# Altium schematic symbol library STUSB4700QTR.SchLib: 1 symbol
Pins are listed as number, name and electrical type; pins without a type are passive.

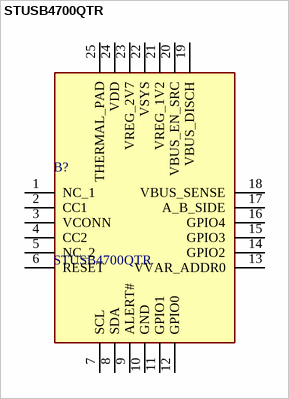
[diagram p0: symbol STUSB4700QTR]

## STUSB4700QTR
designator B?
Stand-alone autonomous USB PD controller with short-to-VBUS protections; Manufacturer_Name: STMicroelectronics; Geometry.Height: 1mm; Mouser Part Number: 511-STUSB4700QTR; Mouser Price/Stock: https://www.mouser.co.uk/ProductDetail/STMicroelectronics/STUSB4700QTR?qs=z7LT7PaeiGHOUo05EuM2ew%3D%3D; Manufacturer_Part_Number: STUSB4700QTR; Datasheet Link: https://www.st.com/resource/en/datasheet/stusb4700.pdf
footprint QFN50P400X400X100-25N-D
pins: 1 NC_1, 2 CC1, 3 VCONN, 4 CC2, 5 NC_2, 6 RESET, 7 SCL, 8 SDA, 9 ALERT#, 10 GND, 11 GPIO1, 12 GPIO0, 13 VVAR_ADDR0, 14 GPIO2, 15 GPIO3, 16 GPIO4, 17 A_B_SIDE, 18 VBUS_SENSE, 19 VBUS_DISCH, 20 VBUS_EN_SRC, 21 VREG_1V2, 22 VSYS, 23 VREG_2V7, 24 VDD, 25 THERMAL_PAD